# Altium schematic symbol library power.SchLib: 1 symbol
Pins are listed as number, name and electrical type; pins without a type are passive.

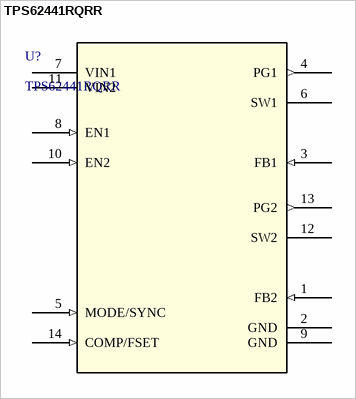
[diagram p0: symbol TPS62441RQRR]

## TPS62441RQRR
designator U?
2.75-V to 6-V, dual 1-A step-down converter in QFN package 14-VQFN-HR -40 to 150; Manufacturer_Name: Texas Instruments; Type: Power Management; Copyright: Copyright (C) 2026 Ultra Librarian. All rights reserved.; Manufacturer_Part_Number: TPS62441RQRR; RefDes: RefDes
footprint VQFN-HR14_RQR_TEX
pins: 1 FB2 (in), 2 GND (power), 3 FB1 (in), 4 PG1 (out), 5 MODE/SYNC (in), 6 SW1, 7 VIN1 (power), 8 EN1 (in), 9 GND (power), 10 EN2 (in), 11 VIN2 (power), 12 SW2, 13 PG2 (out), 14 COMP/FSET (in)